# Altium footprint library Power_Pad_SMD.PcbLib: 1 footprints
Each footprint in its own frame and in the unit in brackets; x right, y up, seen from the top. Pads: shape width x height; smd on the part's side, far side on the other; paste and mask are expansions set on the pad; w line width, h text height; cw(c..) or ccw(c..) is an arc to the next point about the centre after c.
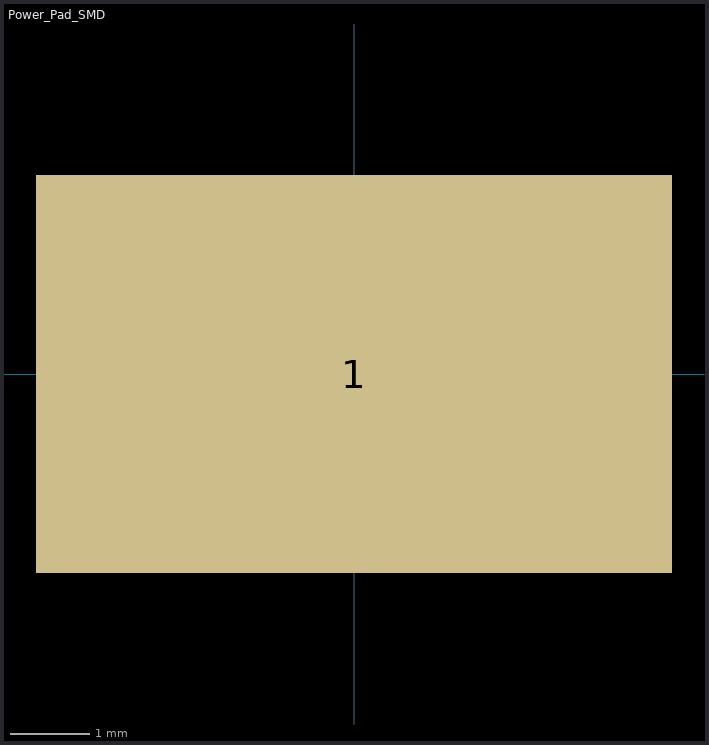
[diagram p0: the footprint, top view; thin cyan lines are the x and y axes]

## Power_Pad_SMD [mm]
pads (1):
  rect 8x5 smd paste+0 mask+0: 1(0,0)
Mechanical 15:
  lines w0.254: -0.635,0 0,0 ; 0,-0.635 0,0 ; 0.635,0 0,0 ; 0,0 0,0.635 0,0